# Altium footprint library Supercapacitors.PcbLib: 1 footprints
Each footprint in its own frame and in the unit in brackets; x right, y up, seen from the top. Pads: shape width x height; smd on the part's side, far side on the other; paste and mask are expansions set on the pad; w line width, h text height; cw(c..) or ccw(c..) is an arc to the next point about the centre after c.
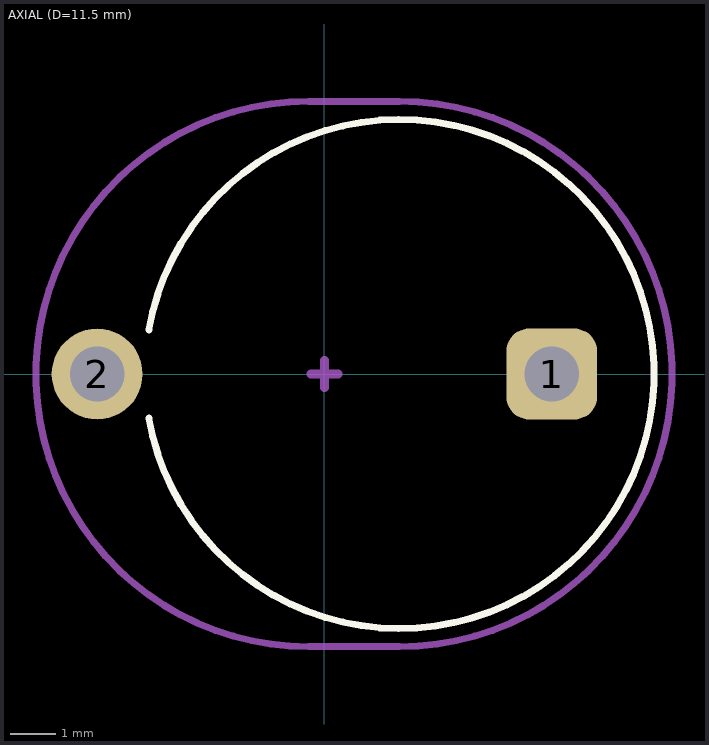
[diagram p0: the footprint, top view; thin cyan lines are the x and y axes]

## AXIAL (D=11.5 mm) [mm]
pads (2):
  rrect50% 2x2 hole 1.2: 1(5,0)
  round 2 hole 1.2: 2(-5,0)
Top Overlay:
  lines w0.153: -3.865,-0.972 ccw(c1.65,0) -3.865,0.972
Top Assembly:
  circle w0.1: c5,0 r0.6
  lines w0.1: -3.865,-0.972 ccw(c1.65,0) -3.865,0.972
  lines w0.153: 4.7,0 5.3,0 ; 5,-0.3 5,0.3
  text ".Designator" at -3.999,-0.267 h0.8
Top Courtyard (Mech6):
  lines w0.153: -0.35,-6 cw(c-0.35,0) -0.35,6 1.65,6 cw(c1.65,0) 1.65,-6 -0.35,-6
  lines w0.2: -0.3,0 0.3,0 ; 0,-0.3 0,0.3
3D body "Untitled.step": height 5.9, standoff -3, extent -5.1,-5.747 7.3,5.747